# Altium footprint library M20_PCBLIB封装库(内有3个封装).PcbLib: 3 footprints
Each footprint in its own frame and in the unit in brackets; x right, y up, seen from the top. Pads: shape width x height; smd on the part's side, far side on the other; paste and mask are expansions set on the pad; w line width, h text height; cw(c..) or ccw(c..) is an arc to the next point about the centre after c.
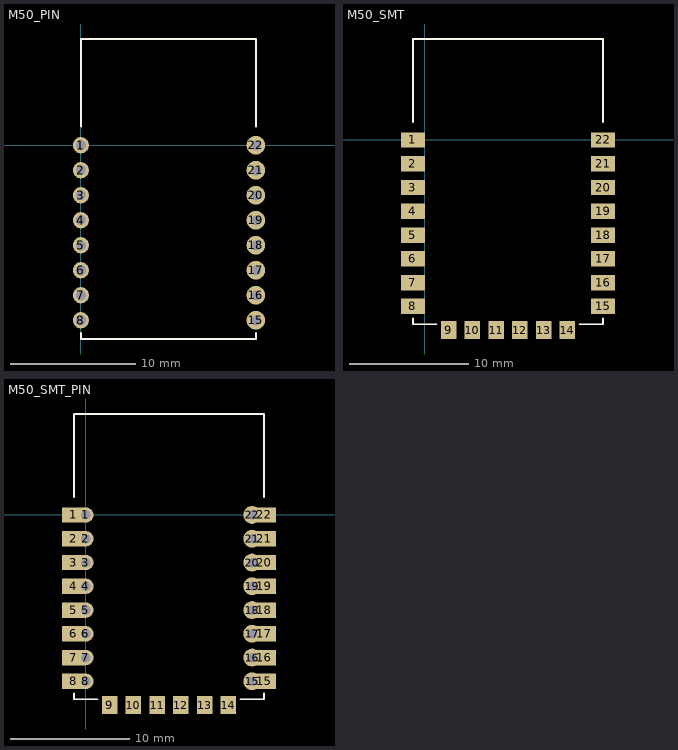
[diagram p0: the footprints below, top view; thin cyan lines are the x and y axes]

## M50_PIN [mm]
height 3.048
pads (16):
  round 1.3 hole 0.8: 1(0,0) 2(0,-2) 3(0,-4) 4(0,-6) 5(0,-8) 6(0,-10) 7(0,-12) 8(0,-14)
  round 1.5 hole 0.8: 15(14,-14) 16(14,-12) 17(14,-10) 18(14,-8) 19(14,-6) 20(14,-4) 21(14,-2) 22(14,0)
Top Overlay:
  lines w0.15: 0,-15 0,-15.5 14,-15.5 14,-15 ; 0,1.5 0,8.5 14,8.5 14,1.5

## M50_SMT [mm]
height 1.524
pads (22):
  rect 2x1.3 smd: 1(-1,0) 2(-1,-2) 3(-1,-4) 4(-1,-6) 5(-1,-8) 6(-1,-10) 7(-1,-12) 8(-1,-14) 15(15,-14) 16(15,-12) 17(15,-10) 18(15,-8) 19(15,-6) 20(15,-4) 21(15,-2) 22(15,0)
  rect 1.3x1.5 smd: 9(2,-16) 10(4,-16) 11(6,-16) 12(8,-16) 13(10,-16) 14(12,-16)
Top Overlay:
  lines w0.15: -1,-15 -1,-15.5 1,-15.5 ; -1,1.5 -1,8.5 15,8.5 15,1.5 ; 13,-15.5 15,-15.5 15,-15

## M50_SMT_PIN [mm]
height 1.524
pads (38):
  rect 2x1.3 smd: 1(-1,0) 2(-1,-2) 3(-1,-4) 4(-1,-6) 5(-1,-8) 6(-1,-10) 7(-1,-12) 8(-1,-14) 15(15,-14) 16(15,-12) 17(15,-10) 18(15,-8) 19(15,-6) 20(15,-4) 21(15,-2) 22(15,0)
  round 1.3 hole 0.8: 1(0,0) 2(0,-2) 3(0,-4) 4(0,-6) 5(0,-8) 6(0,-10) 7(0,-12) 8(0,-14)
  rect 1.3x1.5 smd: 9(2,-16) 10(4,-16) 11(6,-16) 12(8,-16) 13(10,-16) 14(12,-16)
  round 1.5 hole 0.8: 15(14,-14) 16(14,-12) 17(14,-10) 18(14,-8) 19(14,-6) 20(14,-4) 21(14,-2) 22(14,0)
Top Overlay:
  lines w0.15: -1,-15 -1,-15.5 1,-15.5 ; -1,1.5 -1,8.5 15,8.5 15,1.5 ; 13,-15.5 15,-15.5 15,-15